# Altium footprint library Seeed-OPL-Diode.PCBLIB: 38 footprints (part 3 of 3)
Each footprint in its own frame and in the unit in brackets; x right, y up, seen from the top. Pads: shape width x height; smd on the part's side, far side on the other; paste and mask are expansions set on the pad; w line width, h text height; cw(c..) or ccw(c..) is an arc to the next point about the centre after c.
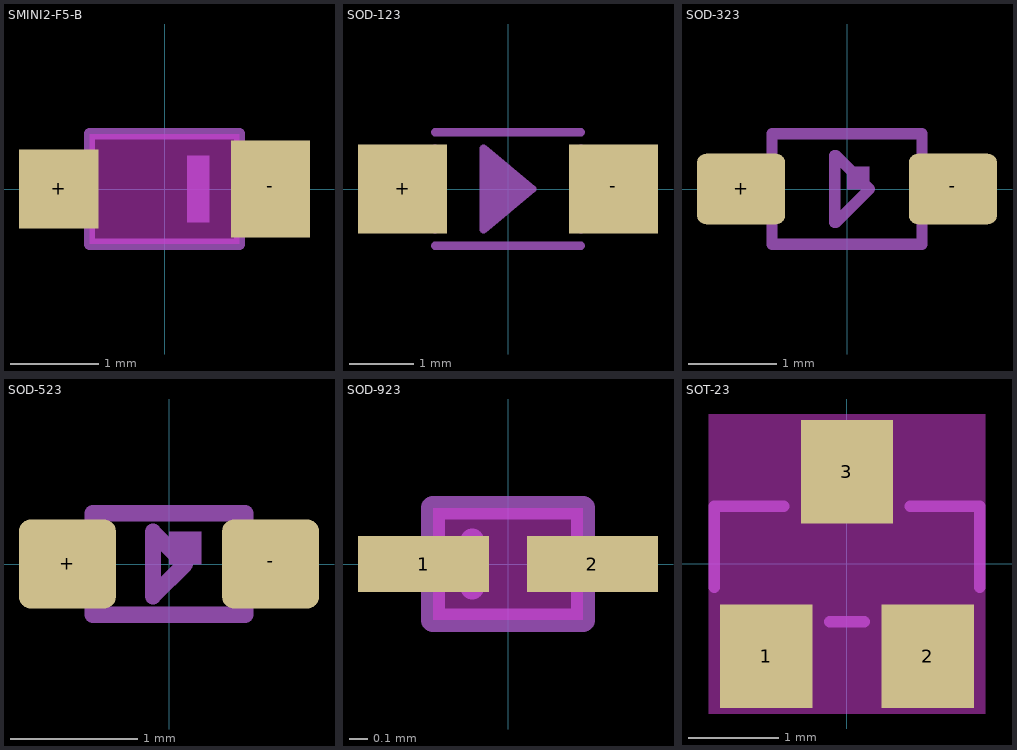
[diagram p2: the footprints below, top view; thin cyan lines are the x and y axes]

## SMINI2-F5-B [mil]
pads (2):
  rect 35.43x35.43 smd: +(-47.24,0)
  rect 35.43x43.31 smd: -(47.24,0)
Keep-Out Layer:
  rectangle: -33.46,-24.61 33.46,24.61
Mechanical 2:
  rectangle: 10,-15 20,15
  lines w5: -33.46,-24.61 33.46,-24.61 ; -33.46,-23.62 -33.46,-19.69 ; -33.46,19.69 -33.46,23.62 ; -33.46,24.61 33.46,24.61
Mechanical 18:
  lines w5: -33.46,-24.61 -33.46,24.61 ; 33.46,-24.61 33.46,24.61

## SOD-123 [mil]
pads (2):
  rect 55x55 smd: +(-65,0) -(65,0)
Mechanical 2:
  lines w5: -45,-35 45,-35 ; -45,35 45,35 ; -5,0 -5,5 ; -15,-20 -15,-25 15,0 ; -15,-20 -15,-15 ; -15,-20 15,0 ; -15,-20 -10,20 10,0 -15,-15 ; -15,-15 -15,25 15,0 ; -15,-15 -10,15 5,0 -10,-10 -10,-5 ; -10,-5 -10,10 -5,5 ; -10,-5 0,0 -5,5 ; -10,-5 -5,5
Mechanical 18:
  region: 76.77,17.72 47.24,17.72 47.24,-15.75 76.77,-15.75
  region: -47.24,17.72 -76.77,17.72 -76.77,-15.75 -47.24,-15.75
  lines w5: -45,-25 -45,25 ; 45,-25 45,25

## SOD-323 [mil]
pads (2):
  rrect25% 39.37x31.5 smd: +(-47.24,0) -(47.24,0)
Mechanical 2:
  region: 0,0 10,0 10,10 0,10
  lines w5: -33.46,-24.61 33.46,-24.61 ; -33.46,-23.62 -33.46,-19.69 ; -33.46,19.69 -33.46,23.62 ; -33.46,24.61 33.46,24.61 ; -5.51,-15 -5.51,15 ; -5,-15 10,0 -5,15 ; 33.46,-23.62 33.46,-19.69 ; 33.46,19.69 33.46,23.62
Mechanical 18:
  lines w5: -33.46,-24.61 -33.46,24.61 ; 33.46,-24.61 33.46,24.61

## SOD-523 [mil]
pads (2):
  rrect25% 30x27.56 smd: +(-31.5,0) -(31.5,0)
Mechanical 2:
  region: 0,0 10,0 10,10 0,10
  lines w5: -19.69,-15.75 15.75,-15.75 ; -15.75,15.75 15.75,15.75 ; -5,-10 -5,10 5,0 -5,-10
Mechanical 18:
  lines w5: -23.62,-15.75 23.62,-15.75 23.62,15.75 -23.62,15.75 -23.62,-15.75

## SOD-923 [mil]
pads (2):
  rect 27.56x11.81 smd: 1(-17.72,0) 2(17.72,0)
Keep-Out Layer:
  rectangle: -15.75,-11.81 15.75,11.81
Mechanical 2:
  lines w5: -15.75,-7.87 -15.75,-11.81 15.75,-11.81 15.75,-7.87 ; -15.75,7.87 -15.75,11.81 15.75,11.81 15.75,7.87
Mechanical 18:
  lines w5: -15.75,-11.81 -15.75,11.81 ; -7.5,-5 -7.5,5 ; 15.75,-11.81 15.75,11.81

## SOT-23 [mil]
pads (3):
  rect 40x45 smd: 1(-35,-40) 2(35,-40) 3(0,40)
Keep-Out Layer:
  rectangle: -60,-65 60,65
Mechanical 2:
  lines w5: -57.5,-10 -57.5,25 -27.5,25 ; -7.5,-25 7.5,-25 ; 27.5,25 57.5,25 57.5,-10
Mechanical 18:
  rectangle: -9,28 9,51
  rectangle: 28,-51 46,-28
  rectangle: -46,-51 -28,-28